# Altium footprint library 2005280200.PcbLib: 1 footprints
Each footprint in its own frame and in the unit in brackets; x right, y up, seen from the top. Pads: shape width x height; smd on the part's side, far side on the other; paste and mask are expansions set on the pad; w line width, h text height; cw(c..) or ccw(c..) is an arc to the next point about the centre after c.
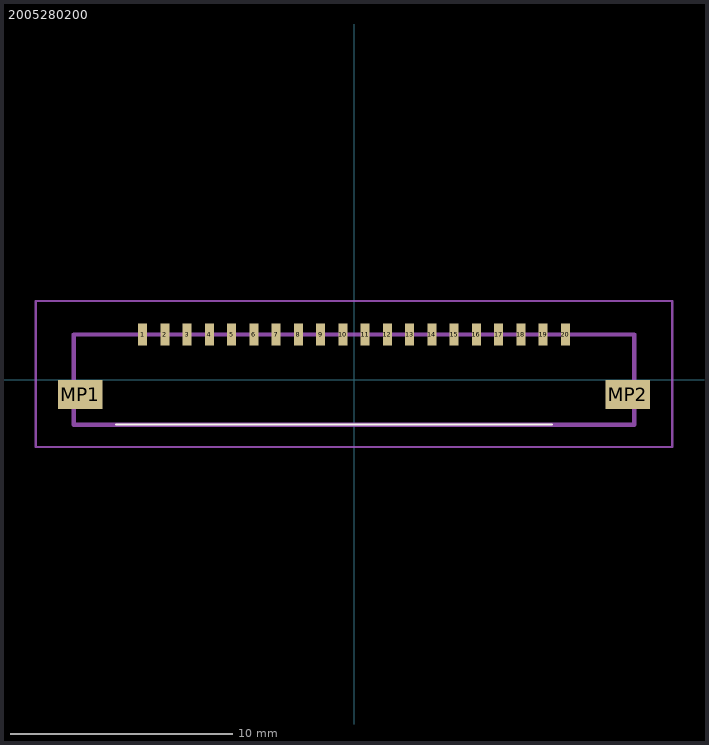
[diagram p0: the footprint, top view; thin cyan lines are the x and y axes]

## 2005280200 [mm]
pads (22):
  rect 0.4x1 smd: 1(-9.5,2.025) 2(-8.5,2.025) 3(-7.5,2.025) 4(-6.5,2.025) 5(-5.5,2.025) 6(-4.5,2.025) 7(-3.5,2.025) 8(-2.5,2.025) 9(-1.5,2.025) 10(-0.5,2.025) 11(0.5,2.025) 12(1.5,2.025) 13(2.5,2.025) 14(3.5,2.025) 15(4.5,2.025) 16(5.5,2.025) 17(6.5,2.025) 18(7.5,2.025) 19(8.5,2.025) 20(9.5,2.025)
  rect 2x1.3 smd: MP1(-12.3,-0.675) MP2(12.3,-0.675)
Top Overlay:
  lines w0.1: -10.7,-2.025 8.9,-2.025
Mechanical 15:
  lines w0.2: -12.6,-2.025 12.6,-2.025 12.6,2.025 -12.6,2.025 -12.6,-2.025
Mechanical 20:
  lines w0.1: -14.3,-3.025 14.3,-3.025 14.3,3.525 -14.3,3.525 -14.3,-3.025